# EAGLE library part SN74AHC125PWR (library SN74AHC125PWR)
QUADRUPLE BUS BUFFER GATES WITH 3-STATE OUTPUTS
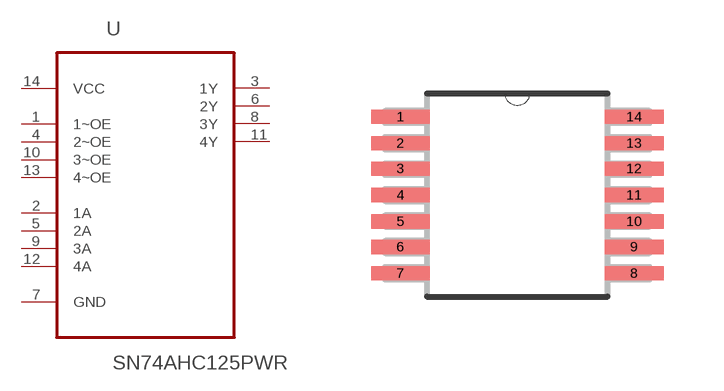
[diagram p0: symbol with the pads of SOP65P640X120-14N; footprint SOP65P640X120-14N]

Designator prefix U

## SN74AHC125PWR (Availability: Unavailable; Description: Quadruple Bus Buffer Gates With 3-State Outputs 14-TSSOP -40 to 125; MF: Texas Instruments; MP: SN74AHC125PWR; Package: TSSOP-14 Texas Instruments; Price: None)  [SOP65P640X120-14N]
1  1~OE  in
2  1A  in
3  1Y  out
4  2~OE  in
5  2A  in
6  2Y  out
7  GND  pas
8  3Y  out
9  3A  in
10  3~OE  in
11  4Y  out
12  4A  in
13  4~OE  in
14  VCC  pwr

## Footprint SOP65P640X120-14N (pad centres in mm)
smd 1.473 x 0.356: 1 -2.921,1.956; 2 -2.921,1.295; 3 -2.921,0.66; 4 -2.921,0; 5 -2.921,-0.66; 6 -2.921,-1.295; 7 -2.921,-1.956; 8 2.921,-1.956; 9 2.921,-1.295; 10 2.921,-0.66; 11 2.921,0; 12 2.921,0.66; 13 2.921,1.295; 14 2.921,1.956